# EAGLE library part CONN_RJ45_X4_LEDS (library GPLIB_CONN)
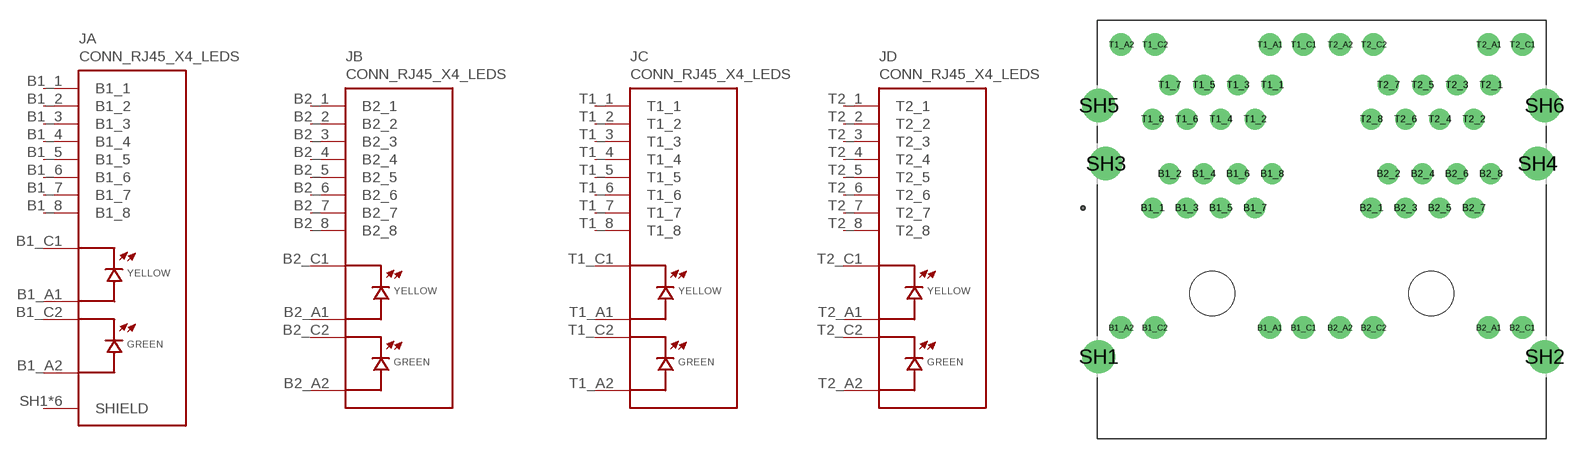
[diagram p11: symbol with the pads of CONN_RJ45_X4_XDRJ-2020-0011; footprint CONN_RJ45_X4_XDRJ-2020-0011]

Designator prefix J; gates A=CONN_ETH_8PORT_BOTTOM_PORT1 B=CONN_ETH_8PORT_BOTTOM_PORT2 C=CONN_ETH_8PORT_TOP_PORT1 D=CONN_ETH_8PORT_TOP_PORT2

## CONN_RJ45_X4_LEDS_XDRJ-2020-0011  [CONN_RJ45_X4_XDRJ-2020-0011]
B1_1  A:B1_1  pas
B1_2  A:B1_2  pas
B1_3  A:B1_3  pas
B1_4  A:B1_4  pas
B1_5  A:B1_5  pas
B1_6  A:B1_6  pas
B1_7  A:B1_7  pas
B1_8  A:B1_8  pas
B1_A1  A:B1_A1  pas
B1_A2  A:B1_A2  pas
B1_C1  A:B1_C1  pas
B1_C2  A:B1_C2  pas
B2_1  B:B2_1  pas
B2_2  B:B2_2  pas
B2_3  B:B2_3  pas
B2_4  B:B2_4  pas
B2_5  B:B2_5  pas
B2_6  B:B2_6  pas
B2_7  B:B2_7  pas
B2_8  B:B2_8  pas
B2_A1  B:B2_A1  pas
B2_A2  B:B2_A2  pas
B2_C1  B:B2_C1  pas
B2_C2  B:B2_C2  pas
SH1  A:SHIELD  pas
SH2  A:SHIELD  pas
SH3  A:SHIELD  pas
SH4  A:SHIELD  pas
SH5  A:SHIELD  pas
SH6  A:SHIELD  pas
T1_1  C:T1_1  pas
T1_2  C:T1_2  pas
T1_3  C:T1_3  pas
T1_4  C:T1_4  pas
T1_5  C:T1_5  pas
T1_6  C:T1_6  pas
T1_7  C:T1_7  pas
T1_8  C:T1_8  pas
T1_A1  C:T1_A1  pas
T1_A2  C:T1_A2  pas
T1_C1  C:T1_C1  pas
T1_C2  C:T1_C2  pas
T2_1  D:T2_1  pas
T2_2  D:T2_2  pas
T2_3  D:T2_3  pas
T2_4  D:T2_4  pas
T2_5  D:T2_5  pas
T2_6  D:T2_6  pas
T2_7  D:T2_7  pas
T2_8  D:T2_8  pas
T2_A1  D:T2_A1  pas
T2_A2  D:T2_A2  pas
T2_C1  D:T2_C1  pas
T2_C2  D:T2_C2  pas

## Footprint CONN_RJ45_X4_XDRJ-2020-0011 (pad centres in mm)
drill 1 pad 1.55: B1_1 -12.58,-0.555; B1_2 -11.31,1.985; B1_3 -10.04,-0.555; B1_4 -8.77,1.985; B1_5 -7.5,-0.555; B1_6 -6.23,1.985; B1_7 -4.96,-0.555; B1_8 -3.69,1.985; B2_1 3.68,-0.555; B2_2 4.95,1.985; B2_3 6.22,-0.555; B2_4 7.49,1.985; B2_5 8.76,-0.555; B2_6 10.03,1.985; B2_7 11.3,-0.555; B2_8 12.57,1.985; T1_1 -3.69,8.585; T1_2 -4.96,6.045; T1_3 -6.23,8.585; T1_4 -7.5,6.045; T1_5 -8.77,8.585; T1_6 -10.04,6.045; T1_7 -11.31,8.585; T1_8 -12.58,6.045; T2_1 12.57,8.585; T2_2 11.3,6.045; T2_3 10.03,8.585; T2_4 8.76,6.045; T2_5 7.49,8.585; T2_6 6.22,6.045; T2_7 4.95,8.585; T2_8 3.68,6.045
drill 1.12 pad 1.6: B1_A1 -3.855,-9.445; B1_A2 -14.905,-9.445; B1_C1 -1.355,-9.445; B1_C2 -12.405,-9.445; B2_A1 12.405,-9.445; B2_A2 1.355,-9.445; B2_C1 14.905,-9.445; B2_C2 3.855,-9.445; T1_A1 -3.855,11.605; T1_A2 -14.905,11.605; T1_C1 -1.355,11.605; T1_C2 -12.405,11.605; T2_A1 12.405,11.605; T2_A2 1.355,11.605; T2_C1 14.905,11.605; T2_C2 3.855,11.605
drill 1.65 pad 2.4: SH1 -16.565,-11.603; SH2 16.565,-11.603; SH3 -16.045,2.745; SH4 16.045,2.745; SH5 -16.565,7.066; SH6 16.565,7.066
hole 3.33 at -8.13,-6.905
hole 3.33 at 8.13,-6.905